# Altium footprint library PCB - Leaded - SOD - SOD2513X110N.PcbLib: 1 footprints
Each footprint in its own frame and in the unit in brackets; x right, y up, seen from the top. Pads: shape width x height; smd on the part's side, far side on the other; paste and mask are expansions set on the pad; w line width, h text height; cw(c..) or ccw(c..) is an arc to the next point about the centre after c.
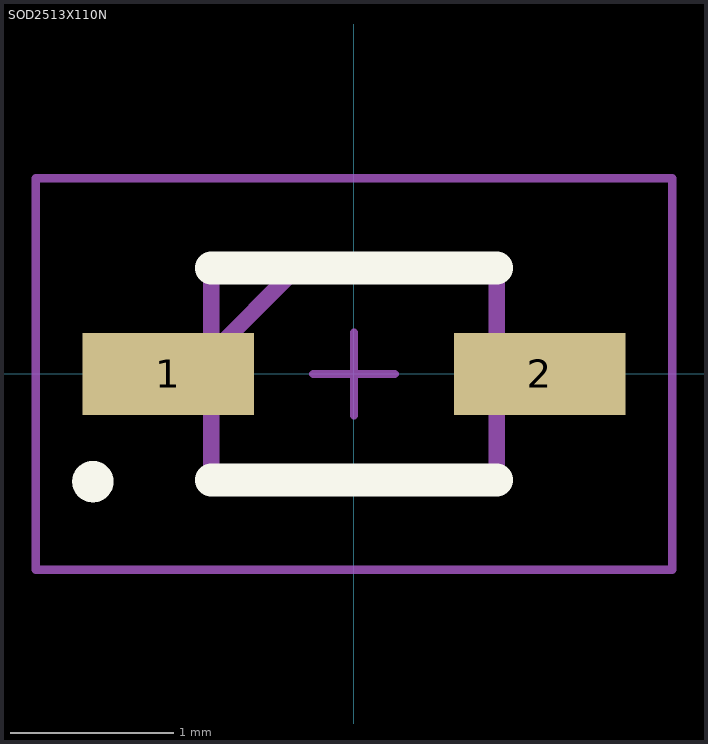
[diagram p0: the footprint, top view; thin cyan lines are the x and y axes]

## SOD2513X110N [mm]
pads (2):
  rect 1.05x0.5 smd: 1(-1.138,0) 2(1.138,0)
Top Overlay:
  lines w0.127: -1.663,-0.66 ccw(c-1.6,-0.66) -1.6,-0.723 ccw(c-1.6,-0.66) -1.536,-0.66 ccw(c-1.6,-0.66) -1.6,-0.596 ccw(c-1.6,-0.66) -1.663,-0.66
  lines w0.2: -0.875,-0.65 0.875,-0.65 ; -0.875,0.65 0.875,0.65
Top Assembly:
  lines w0.1: -0.875,0.125 -0.35,0.65 ; -0.875,-0.65 -0.875,0.65 0.875,0.65 0.875,-0.65 -0.875,-0.65
Top Courtyard:
  lines w0.05: -1.95,-1.2 -1.95,1.2 1.95,1.2 1.95,-1.2 -1.95,-1.2
Top Designator:
  text ".Designator" at -2.794,1.143 h0.51
Top Component Center:
  lines w0.051: -0.25,0 0.25,0 ; 0,-0.254 0,0.254
3D body "BAT165E6327HTSA1.stp": height 1.1, standoff 0, extent -1.25,-0.65 1.25,0.65